# Altium footprint library WL-SFCD_0805.PcbLib: 1 footprints
Each footprint in its own frame and in the unit in brackets; x right, y up, seen from the top. Pads: shape width x height; smd on the part's side, far side on the other; paste and mask are expansions set on the pad; w line width, h text height; cw(c..) or ccw(c..) is an arc to the next point about the centre after c.
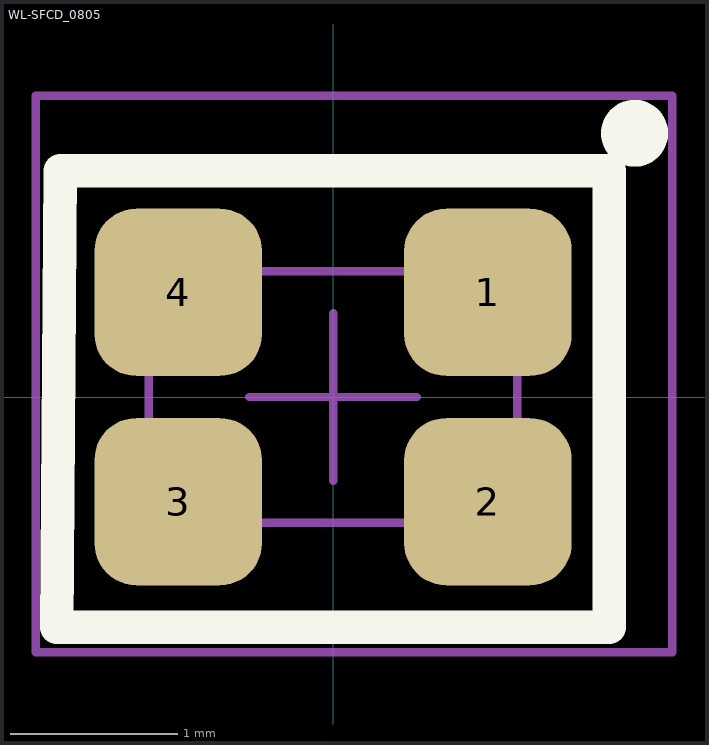
[diagram p0: the footprint, top view; thin cyan lines are the x and y axes]

## WL-SFCD_0805 [mm]
pads (4):
  rrect50% 1x1 smd mask+0.05: 1(0.925,0.625) 2(0.925,-0.625) 3(-0.925,-0.625) 4(-0.925,0.625)
Top Overlay:
  circle w0.2: c1.8,1.575 r0.1
  lines w0.2: -1.651,-1.375 1.65,-1.375 1.65,1.35 -1.63,1.35 -1.651,-1.375
Assembly Top:
  lines w0.05: -1.1,-0.75 -1.1,0.75 1.1,0.75 1.1,-0.75 -1.1,-0.75
Courtyard Top:
  lines w0.05: -0.5,0 0.5,0 ; 0,-0.5 0,0.5 ; -1.775,-1.525 -1.775,1.8 2.025,1.8 2.025,-1.525 -1.775,-1.525
3D body "STEP-WL-SFCD-0805-rev1.stp": height 0.5, standoff 0, extent -1,-0.65 1,0.65